# Altium footprint library CAP_B43548A5127M060.PcbLib: 1 footprints
Each footprint in its own frame and in the unit in brackets; x right, y up, seen from the top. Pads: shape width x height; smd on the part's side, far side on the other; paste and mask are expansions set on the pad; w line width, h text height; cw(c..) or ccw(c..) is an arc to the next point about the centre after c.
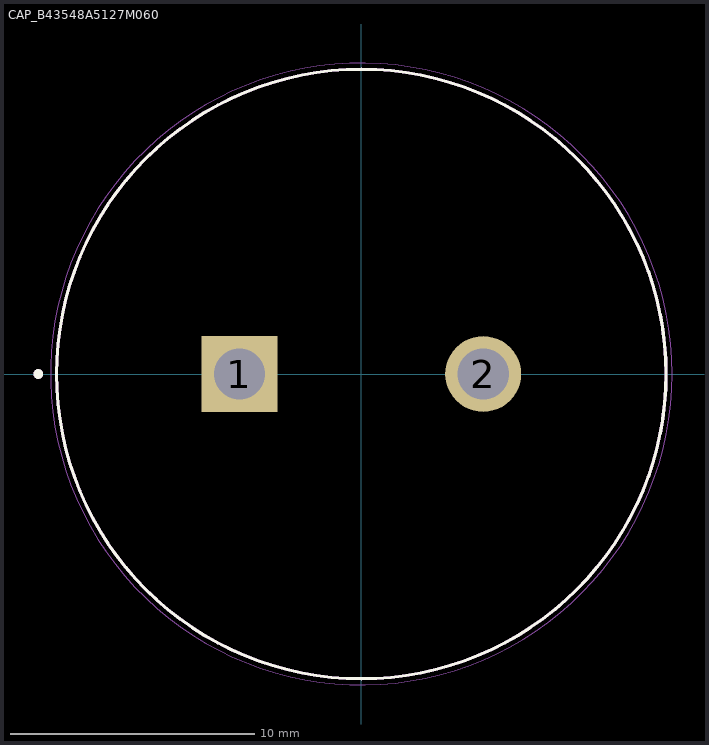
[diagram p0: the footprint, top view; thin cyan lines are the x and y axes]

## CAP_B43548A5127M060 [mm]
height 32
pads (2):
  rect 3.116x3.116 / inner round 3.116 / far side rect 3.116x3.116 hole 2.1 mask+0.102: 1(-5,0)
  round 3.116 hole 2.1 mask+0.102: 2(5,0)
Top Overlay:
  circle w0.2: c-13.25,0 r0.1
  circle w0.127: c0,0 r12.5
Assembly Top:
  circle w0.2: c-13.25,0 r0.1
  circle w0.127: c0,0 r12.5
Courtyard Top:
  circle w0.05: c0,0 r12.75
3D body "step_temp.STEP": height 32, standoff -4, extent -12.5,-12.5 12.5,12.5